# EAGLE library part GD75232 (library DSS0)
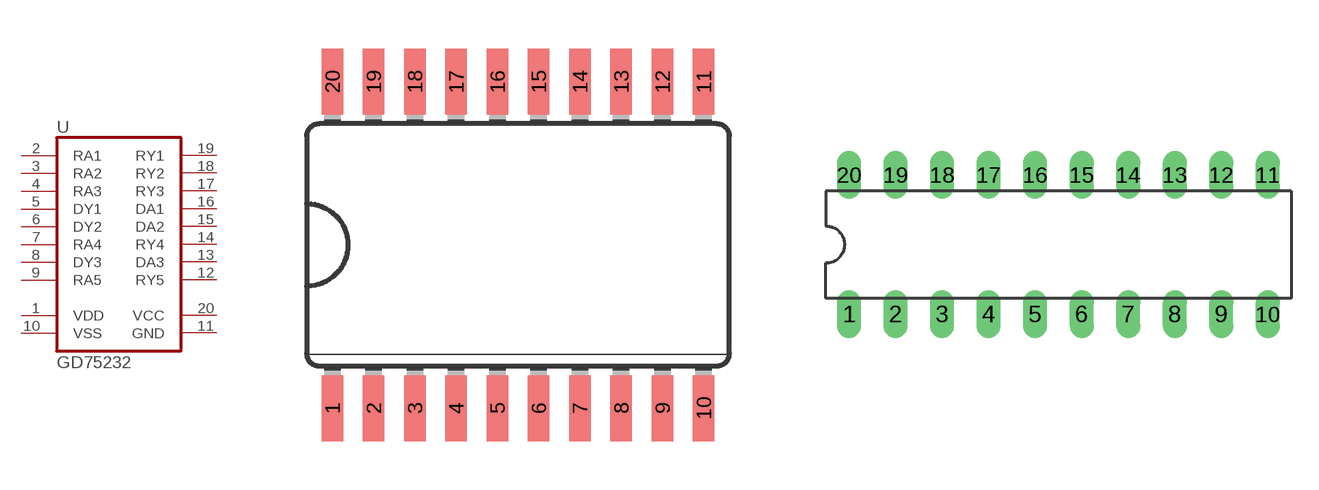
[diagram p0: symbol with the pads of SO20W; footprints SO20W, DIL20]

Designator prefix -

## GD75232S  [SO20W]
1  VDD  sup
2  RA1  in
3  RA2  in
4  RA3  in
5  DY1  in
6  DY2  in
7  RA4  in
8  DY3  in
9  RA5  in
10  VSS  sup
11  GND  sup
12  RY5  hiz
13  DA3  hiz
14  RY4  hiz
15  DA2  hiz
16  DA1  hiz
17  RY3  hiz
18  RY2  hiz
19  RY1  hiz
20  VCC  sup

## GD75232D  [DIL20]
Pads as for SO20W

## Footprint SO20W (pad centres in mm)
Wide Small Outline package 300 mil
smd 0.66 x 2.032: 1 -5.715,-5.029; 2 -4.445,-5.029; 3 -3.175,-5.029; 4 -1.905,-5.029; 5 -0.635,-5.029; 6 0.635,-5.029; 7 1.905,-5.029; 8 3.175,-5.029; 9 4.445,-5.029; 10 5.715,-5.029; 11 5.715,5.029; 12 4.445,5.029; 13 3.175,5.029; 14 1.905,5.029; 15 0.635,5.029; 16 -0.635,5.029; 17 -1.905,5.029; 18 -3.175,5.029; 19 -4.445,5.029; 20 -5.715,5.029

## Footprint DIL20 (pad centres in mm)
Dual In Line Package
drill 0.813 long: 1 -11.43,-3.81; 2 -8.89,-3.81; 3 -6.35,-3.81; 4 -3.81,-3.81; 5 -1.27,-3.81; 6 1.27,-3.81; 7 3.81,-3.81; 8 6.35,-3.81; 9 8.89,-3.81; 10 11.43,-3.81; 11 11.43,3.81; 12 8.89,3.81; 13 6.35,3.81; 14 3.81,3.81; 15 1.27,3.81; 16 -1.27,3.81; 17 -3.81,3.81; 18 -6.35,3.81; 19 -8.89,3.81; 20 -11.43,3.81